# EAGLE library part TPS2111A (library texas-instruments)
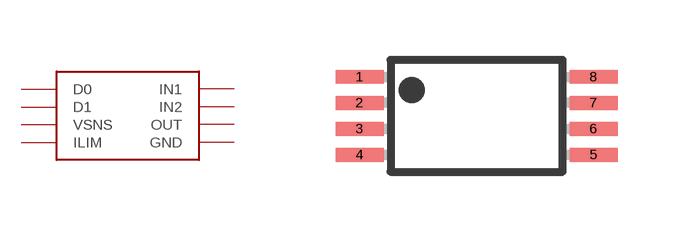
[diagram p3: symbol with the pads of TSSOP8; footprint TSSOP8]

Designator prefix -

## TPS2111A  [TSSOP8]
1  D0
2  D1
3  VSNS
4  ILIM
5  GND
6  IN2
7  OUT
8  IN1

## Footprint TSSOP8 (pad centres in mm)
Plastic Small Outline
smd 1.2 x 0.35: 1 -2.925,0.975; 2 -2.925,0.325; 3 -2.925,-0.325; 4 -2.925,-0.975; 5 2.925,-0.975; 6 2.925,-0.325; 7 2.925,0.325; 8 2.925,0.975